# EAGLE library part 1554ЛЕ1 (library std-logic-1554series)
АЕЯР.431200.182-08 ТУ 1554ЛЕ1 - Четыре логических элемента "2ИЛИ-НЕ". Изготовитель: ОАО "ИНТЕГРАЛ", г. Минск, р. Беларусь. Технические условия (ТБМ): АЕЯР.431200.182-08 ТУ Технические условия (не ТБМ): АЕЯР.431200.093-01 ТУ
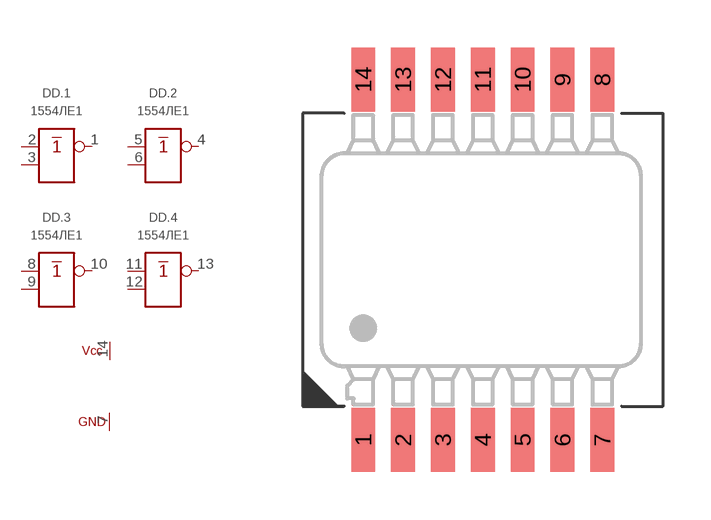
[diagram p12: symbol with the pads of 401.14-5; footprint 401.14-5]

Designator prefix DD; gates .1=1554ЛЕ1 .2=1554ЛЕ1 .3=1554ЛЕ1 .4=1554ЛЕ1 G$1=1554_PWR3

## 1554ЛЕ1ТБМ  [401.14-5]
1  .1:Y  in
2  .1:A  in
3  .1:B  in
4  .2:Y  in
5  .2:A  in
6  .2:B  in
7  G$1:GND  pwr
8  .3:A  in
9  .3:B  in
10  .3:Y  in
11  .4:A  in
12  .4:B  in
13  .4:Y  in
14  G$1:VCC  pwr

## Footprint 401.14-5 (pad centres in mm)
smd 0.75 x 2: 1 -3.7,-5.65; 2 -2.45,-5.65; 3 -1.2,-5.65; 4 0.05,-5.65; 5 1.3,-5.65; 6 2.55,-5.65; 7 3.8,-5.65; 8 3.8,5.65; 9 2.55,5.65; 10 1.3,5.65; 11 0.05,5.65; 12 -1.2,5.65; 13 -2.45,5.65; 14 -3.7,5.65